# Altium footprint library 2020-10-31_05-21-41.PcbLib: 1 footprints
Each footprint in its own frame and in the unit in brackets; x right, y up, seen from the top. Pads: shape width x height; smd on the part's side, far side on the other; paste and mask are expansions set on the pad; w line width, h text height; cw(c..) or ccw(c..) is an arc to the next point about the centre after c.
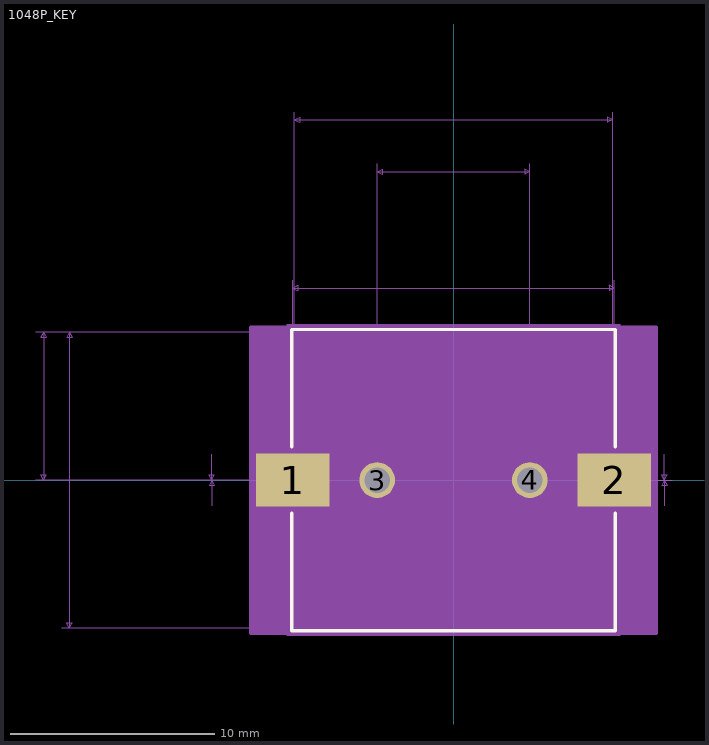
[diagram p0: the footprint, top view; thin cyan lines are the x and y axes]

## 1048P_KEY [mil]
pads (4):
  rect 142x102 smd paste+0 mask+0: 1(-311,0) 2(311,0)
  round 69 hole 49: 3(-147.5,0) 4(147.5,0)
Top Overlay:
  lines w6: -312.5,-64.1 -312.5,-291 312.5,-291 312.5,-64.1 ; -312.5,64.1 -312.5,291 312.5,291 312.5,64.1
Bottom Overlay:
  circle w20: c-382.5,0 r15
Mechanical 5:
  region: -322.5,301 322.5,301 322.5,-301 -322.5,-301
Mechanical 7:
  lines w1: -807,0 0,0 -482,0 147.5,0 147.5,611 ; -807,286 -307.5,286 ; -757,-286 -307.5,-286 ; -757,286 -307.5,286 ; -467,-50 -467,0 ; -467,50 -467,0 ; -311,386 -311,0 ; -307.5,711 -307.5,286 ; -147.5,0 -147.5,611 ; 307.5,286 307.5,711 ; 311,0 311,386 ; 407.5,-50 407.5,0 ; 407.5,50 407.5,0 ; -792,0 -792,286 ; -792,0 -797,10 -787,10 -792,0 ; -792,286 -797,276 -787,276 -792,286 ; -742,-286 -742,286 ; -742,-286 -747,-276 -737,-276 -742,-286 ; -742,286 -747,276 -737,276 -742,286 ; -467,0 -472,10 -462,10 -467,0 ; -467,0 -472,-10 -462,-10 -467,0 ; -311,0 422.5,0 -311,0 ; -311,371 311,371 ; -311,371 -301,376 -301,366 -311,371 ; -307.5,696 307.5,696 ; -307.5,696 -297.5,701 -297.5,691 -307.5,696 ; -147.5,596 147.5,596 ; -147.5,596 -137.5,601 -137.5,591 -147.5,596 ; 147.5,596 137.5,601 137.5,591 147.5,596 ; 307.5,696 297.5,701 297.5,691 307.5,696 ; 311,371 301,376 301,366 311,371 ; 407.5,0 402.5,10 412.5,10 407.5,0 ; 407.5,0 402.5,-10 412.5,-10 407.5,0
  text "Default Padstyle: RX142Y102D0T" at -375,-446 h50
  text "1st Mtg Padstyle: EX69Y69D49P" at -362.5,-521 h50
  text "2nd Mtg Padstyle: EX70Y70D70P" at -362.5,-596 h50
  text "3rd Mtg Padstyle: EX70Y70D70P" at -362.5,-671 h50
  text "Left Mtg Padstyle: EX60Y60D30P" at -375,-746 h50
  text "Right Mtg Padstyle: EX60Y60D30P" at -387.5,-821 h50
  text "Alt Padstyle 1: OX60Y90D30P" at -337.5,-896 h50
  text "Alt Padstyle 2: OX90Y60D30P" at -337.5,-971 h50
  text "0.622in/15.799mm" at -566.5,391 h25
  text "0.295in/7.493mm" at -93.75,616 h25
  text "0.615in/15.621mm" at -100,716 h25
  text "0in/0mm" at 427.5,-12.5 h25
  text "0in/0mm" at -574.5,-12.5 h25
  text "0.286in/7.264mm" at -999.5,130.5 h25
  text "0.572in/14.529mm" at -962,-12.5 h25
Mechanical 13:
  circle w20: c-311,75 r15
  lines w1: -307.5,-286 307.5,-286 307.5,286 -307.5,286 -307.5,-286
Mechanical 15:
  region: 392,296 -392,296 -392,-296 392,-296
  lines w6: -392,-296 -392,296 392,296 392,-296 -392,-296
3D body: height 10, standoff 0, extent 0,0 10,10